# Altium footprint library 87224-3.PcbLib: 1 footprints
Each footprint in its own frame and in the unit in brackets; x right, y up, seen from the top. Pads: shape width x height; smd on the part's side, far side on the other; paste and mask are expansions set on the pad; w line width, h text height; cw(c..) or ccw(c..) is an arc to the next point about the centre after c.
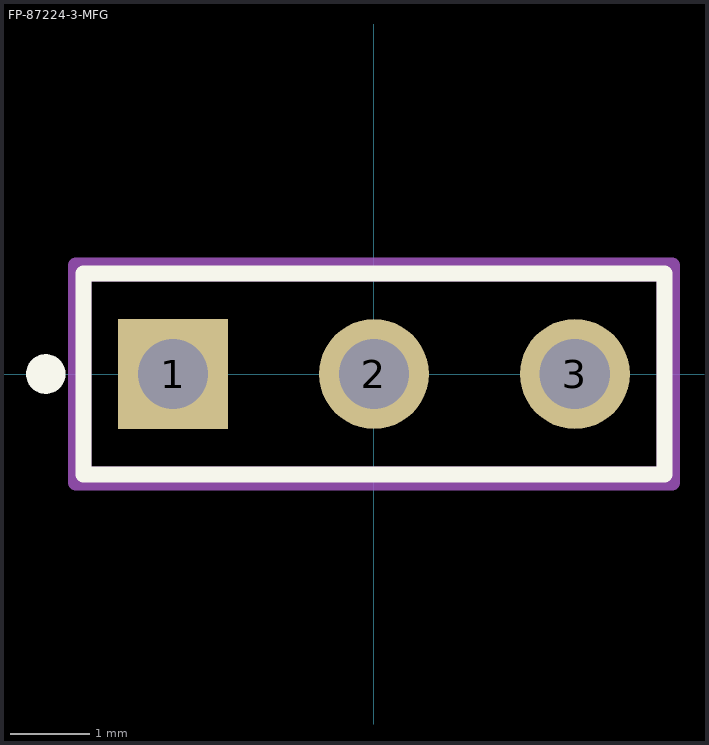
[diagram p0: the footprint, top view; thin cyan lines are the x and y axes]

## FP-87224-3-MFG [mil]
pads (3):
  rect 54.69x54.69 hole 35 paste-99999 mask+0: 1(-100,0)
  round 54.69 hole 35 paste-99999 mask+0: 2(0,0) 3(100,0)
Top Overlay:
  circle w9.84: c-163.39,0 r4.92
  lines w7.87: -144.55,-50.05 -144.55,50.05 144.55,50.05 144.55,-50.05 -144.55,-50.05
Top Assembly:
  lines w7.87: -148.44,-53.94 -148.44,53.94 148.44,53.94 148.44,-53.94 -148.44,-53.94
  text ".Designator" at 0,-0.02 h39.37
Top 3D Body:
  lines w7.87: -144.5,-50 -144.5,50 144.5,50 144.5,-50 -144.5,-50
Top Courtyard:
  lines w7.87: -148.44,-53.94 -148.44,53.94 148.44,53.94 148.44,-53.94 -148.44,-53.94
Top Component Center:
  lines w3.94: -19.68,0 19.68,0 ; 0,-19.68 0,19.68
3D body "Conn_TE_Connectivity_87224-3_eec.STEP": height 10, standoff 0, extent -148.44,-53.94 148.44,53.94